# Altium schematic symbol library TE 2-215308-0.Schlib: 1 symbol
Pins are listed as number, name and electrical type; pins without a type are passive.

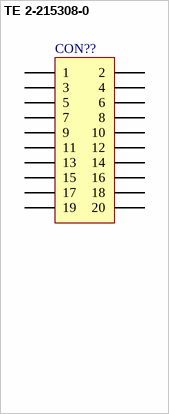
[diagram p0: symbol TE 2-215308-0]

## TE 2-215308-0
designator CON??
Conn Socket Strip SKT 20 POS 2.54mm; Manufacturer: TE; TYPE: Connectors; ComponentLink1Description: Datasheet link; Supplier 1: Mouser; Technology: Headers
footprint 2-215308-0 (TE Connectivity / AMP  2-215308-0)
pins: 1, 2, 3, 4, 5, 6, 7, 8, 9, 10, 11, 12, 13, 14, 15, 16, 17, 18, 19, 20